# EAGLE library part R2004GF (library futaba)
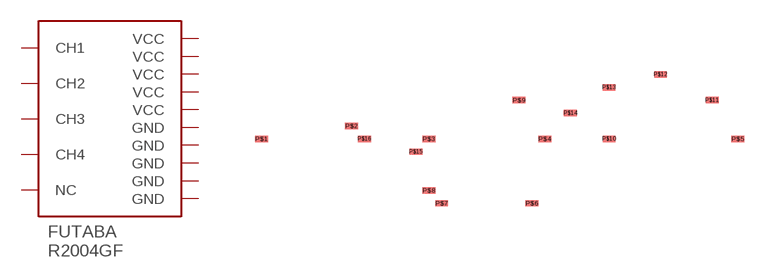
[diagram p0: symbol with the pads of R2004GF; footprint R2004GF]

Designator prefix -

## R2004GF  [R2004GF]
P$1  CH1
P$2  CH2
P$3  CH3
P$4  CH4
P$5  GND  pwr
P$6  GND  pwr
P$7  GND  pwr
P$8  GND  pwr
P$9  GND  pwr
P$10  NC  nc
P$11  VCC  pwr
P$12  VCC  pwr
P$13  VCC  pwr
P$14  VCC  pwr
P$15  VCC  pwr

## Footprint R2004GF (pad centres in mm)
smd 1.27 x 0.635: P$1 -26.67,1.27; P$2 -17.78,2.54; P$3 -10.16,1.27; P$4 1.27,1.27; P$5 20.32,1.27; P$6 0,-5.08; P$7 -8.89,-5.08; P$8 -10.16,-3.81; P$9 -1.27,5.08; P$10 7.62,1.27; P$11 17.78,5.08; P$12 12.7,7.62; P$13 7.62,6.35; P$14 3.81,3.81; P$15 -11.43,0; P$16 -16.51,1.27